# EAGLE library part Q_LTC490 (library MRDT-2014-All)
IC, RS422-RS485 DRVR
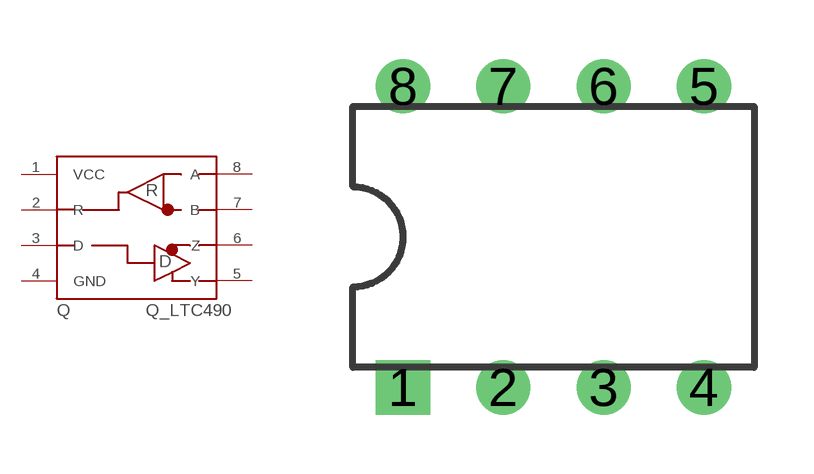
[diagram p9: symbol with the pads of DIP8; footprint DIP8]

Designator prefix Q

## Q_LTC490  [DIP8]
1  VCC
2  R
3  D
4  GND
5  Y
6  Z
7  B
8  A

## Footprint DIP8 (pad centres in mm)
drill 0.864 square: 1 -3.81,-3.81
drill 0.864: 2 -1.27,-3.81; 3 1.27,-3.81; 4 3.81,-3.81; 5 3.81,3.81; 6 1.27,3.81; 7 -1.27,3.81; 8 -3.81,3.81